# Altium schematic symbol library Active.SchLib: 3 symbols
Pins are listed as number, name and electrical type; pins without a type are passive.

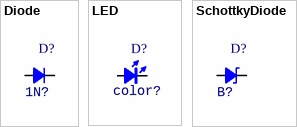
[diagram p0: symbols Diode to SchottkyDiode]

## Diode
designator D?, comment 1N?
Diode; Type: SMA; Value: 1N?
footprint SOD-80/MLL34 (Metal Electrode Face (MELF) Diode; Body 3.5 x 1.7 mm (LxDia))
pins: 1 A, 2 K

## LED
designator D?, comment color?
LED; Value: color?
footprint LED_0603
footprint LED_0402
footprint LED_0805
pins: 1 A, 2 K

## SchottkyDiode
designator D?, comment B?
Schottky Diode; Value: B?
footprint DO-214AB (SMC)
footprint DO-214AC (SMA)
footprint DO-214AA (SMB)
pins: 1 A, 2 K